# Altium schematic symbol library Main Board.SchLib: 21 symbols
Pins are listed as number, name and electrical type; pins without a type are passive.

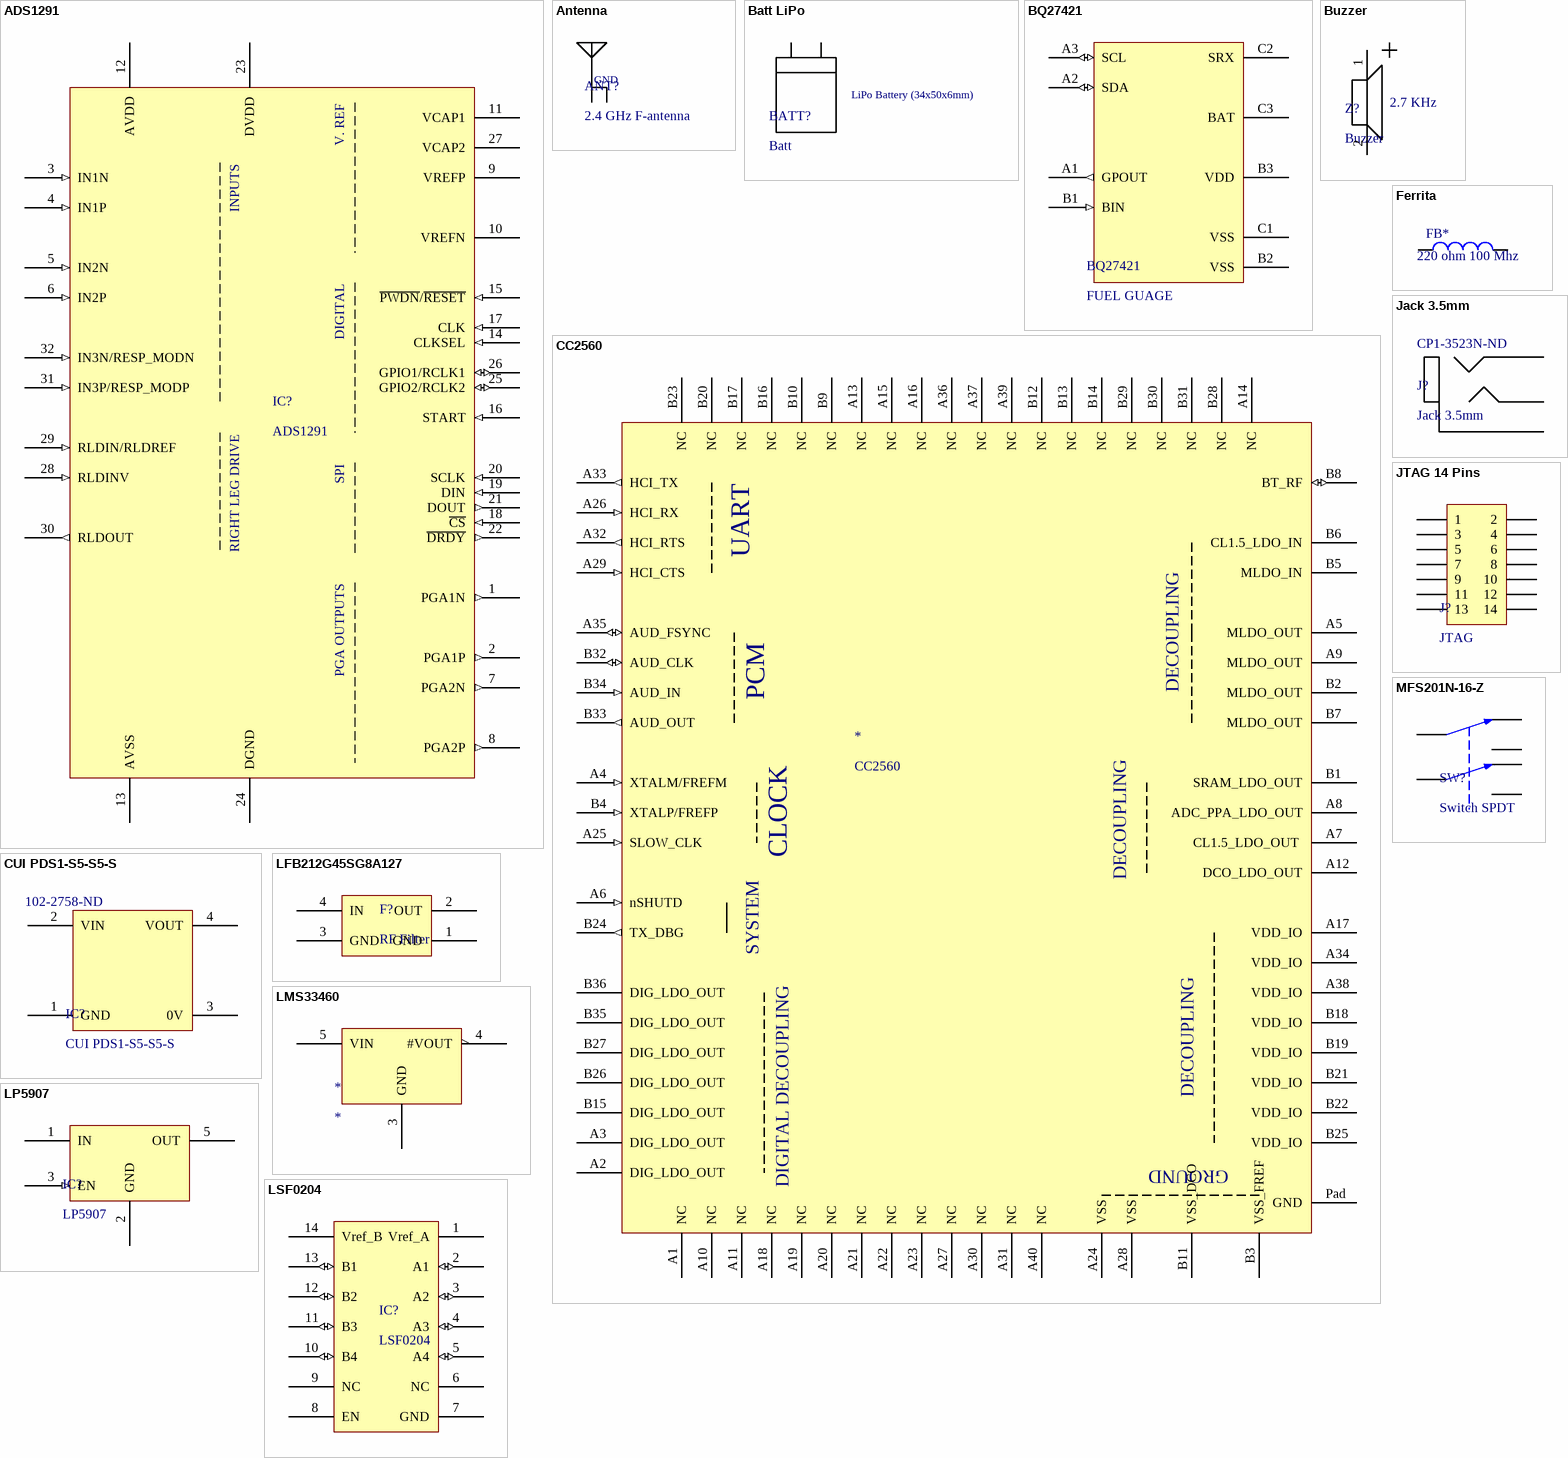
[diagram p0: symbols ADS1291 to MFS201N-16-Z]

## ADS1291
designator IC?
AFE - Medical Analog Front End; Supplier 1: Digi-Key; Supplier Part Number 1: 296-36547-5-ND
footprint TSQFP50P700X700X120-32N (TSQFP, 32-Leads, Body 5,00x5,00mm, Pitch 0,50mm, IPC Medium Density)
pins: 1 PGA1N (out), 2 PGA1P (out), 3 IN1N (in), 4 IN1P (in), 5 IN2N (in), 6 IN2P (in), 7 PGA2N (out), 8 PGA2P (out), 9 VREFP, 10 VREFN, 11 VCAP1, 12 AVDD (power), 13 AVSS (power), 14 CLKSEL (in), 15 ~{PWDN}/~{RESET} (in), 16 START (in), 17 CLK (in), 18 ~{CS} (in), 19 DIN (in), 20 SCLK (in), 21 DOUT (out), 22 ~{DRDY} (out), 23 DVDD (power), 24 DGND (power), 25 GPIO2/RCLK2 (io), 26 GPIO1/RCLK1 (io), 27 VCAP2, 28 RLDINV (in), 29 RLDIN/RLDREF (in), 30 RLDOUT (out), 31 IN3P/RESP_MODP (in), 32 IN3N/RESP_MODN (in)
text: V. REF; INPUTS; DIGITAL; RIGHT LEG DRIVE; SPI; PGA OUTPUTS

## Antenna
designator ANT?, comment 2.4 GHz F-antenna  (net tie, no BOM)
footprint Antenna
pins: 1 IN, 2 GND

## Batt LiPo
designator BATT?, comment Batt  (mechanical)
Batt - LiPo Battery 3.7V 1050mAh
footprint BATT
text: LiPo Battery (34x50x6mm)

## BQ27421
designator BQ27421, comment FUEL GUAGE
Supplier 1: Digi-Key; Supplier Part Number 1: 296-38880-1-ND
footprint BQ27421 (BGA, 9-Leads, Body 1,62x1,58mmx0,63mm, Pitch 0,50mm)
pins: A1 GPOUT (out), A2 SDA (io), A3 SCL (io), B1 BIN (in), B2 VSS (power), B3 VDD (power), C1 VSS (power), C2 SRX (power), C3 BAT (power)

## Buzzer
designator Z?
Magnetic Buzzer 2.7 KHz; Supplier 1: Farnell; Supplier Part Number 1: 2215090
footprint KSSG74B16 (Magnetic Buzzer)
pins: 1 +, 2 -
text: 2.7 KHz

## CC2560
designator *
footprint CC2560 (Double Row QFN, 76-Leads, Body 8,00x8,00mm, Pitch 0,60mm, Thermal Pad 3,40x3,40mm, IPC Low Density)
pins: A1 NC, A2 DIG_LDO_OUT (power), A3 DIG_LDO_OUT (power), A4 XTALM/FREFM (in), A5 MLDO_OUT (power), A6 nSHUTD (in), A7 CL1.5_LDO_OUT  (power), A8 ADC_PPA_LDO_OUT (power), A9 MLDO_OUT (power), A10 NC, A11 NC, A12 DCO_LDO_OUT (power), A13 NC, A14 NC, A15 NC, A16 NC, A17 VDD_IO (power), A18 NC, A19 NC, A20 NC, A21 NC, A22 NC, A23 NC, A24 VSS (power), A25 SLOW_CLK (in), A26 HCI_RX (in), A27 NC, A28 VSS (power), A29 HCI_CTS (in), A30 NC, A31 NC, A32 HCI_RTS (out), A33 HCI_TX (out), A34 VDD_IO (power), A35 AUD_FSYNC (io), A36 NC, A37 NC, A38 VDD_IO (power), A39 NC, A40 NC, B1 SRAM_LDO_OUT (power), B2 MLDO_OUT (power), B3 VSS_FREF (power), B4 XTALP/FREFP (in), B5 MLDO_IN (power), B6 CL1.5_LDO_IN (power), B7 MLDO_OUT (power), B8 BT_RF (io), B9 NC, B10 NC, B11 VSS_DCO (power), B12 NC, B13 NC, B14 NC, B15 DIG_LDO_OUT (power), B16 NC, B17 NC, B18 VDD_IO (power), B19 VDD_IO (power), B20 NC, B21 VDD_IO (power), B22 VDD_IO (power), B23 NC, B24 TX_DBG (out), B25 VDD_IO (power), B26 DIG_LDO_OUT (power), B27 DIG_LDO_OUT (power), B28 NC, B29 NC, B30 NC, B31 NC, B32 AUD_CLK (io), B33 AUD_OUT (out), B34 AUD_IN (in), B35 DIG_LDO_OUT (power), B36 DIG_LDO_OUT (power), Pad GND (power)
text: UART; DECOUPLING; PCM; CLOCK; SYSTEM; GROUND; DIGITAL DECOUPLING

## CUI PDS1-S5-S5-S
designator IC?  Supplier Part Number 1: 102-2758-ND
Supplier 1: Digi-Key
footprint SIL4
pins: 1 GND (power), 2 VIN (power), 3 0V (power), 4 VOUT (power)

## Ferrita
designator FB*, comment 220 ohm 100 Mhz
INDUCTOR, 0.04OHM, 3A, 0805; Value: 220 ohm 100 Mhz
footprint 0805 Ind (Chip Capacitor, 2-Leads, Body 2,00x1,25mm, IPC Medium Density)
pins: 1, 2

## Jack 3.5mm
designator J?  Supplier Part Number 1: CP1-3523N-ND
Supplier 1: Digi-Key
footprint Jack 3.5mm
pins: 1 Sleeve, 2 Tip, 3 Ring

## JTAG 14 Pins
designator J?, comment JTAG
JTAG 7X2 Pin Header 90º; Supplier 1: Digi-Key; Supplier Part Number 1: ED10534-ND
footprint JTAG 14 PINS (7X2 PIN Header 90º JTAG)
pins: 1, 2, 3, 4, 5, 6, 7, 8, 9, 10, 11, 12, 13, 14

## LFB212G45SG8A127
designator F?, comment RF Filter
RF Filter 2.4 GHz; Supplier 1: Digi-Key; Supplier Part Number 1: 490-5021-1-ND
footprint LFB212G45SG8A127 (DFN, 4-Leads, Body 2,00x1,25mm, Pitch 1,50mm, IPC Medium Density)
pins: 1 GND (power), 2 OUT, 3 GND (power), 4 IN (power)

## LMS33460
designator *
Supplier 1: Digi-Key; Supplier Part Number 1: LMS33460MG/NOPBCT-ND
footprint LMS33460 (SOT23, 5-Leads, Body 2,00x2,10mm, Pitch 0,65mm, IPC Medium Density)
pins: 3 GND (power), 4 #VOUT (oc), 5 VIN (power)

## LP5907
designator IC?
Supplier 1: Digi-Key; Supplier Part Number 1: 296-38557-1-ND
footprint SOT23 (SOT23, 5-Leads, Body 2,90x2,80mm, Pitch 0,95mm, IPC Medium Density)
pins: 1 IN (power), 2 GND (power), 3 EN (in), 5 OUT (power)

## LSF0204
designator IC?
footprint LSF0204 (TSOP, 14-Leads, Body 5,00x4,40mm, Pitch 0,65mm, IPC Medium Density)
pins: 1 Vref_A (power), 2 A1 (io), 3 A2 (io), 4 A3 (io), 5 A4 (io), 6 NC, 7 GND (power), 8 EN, 9 NC, 10 B4 (io), 11 B3 (io), 12 B2 (io), 13 B1 (io), 14 Vref_B

## MFS201N-16-Z
designator SW?, comment Switch SPDT
Supplier 1: Digi-Key; Supplier Part Number 1: 563-1558-ND
footprint MFS201N-16-Z (DPDT Switch 30V 1A)
pins: 1, 2, 3, 4, 5, 6

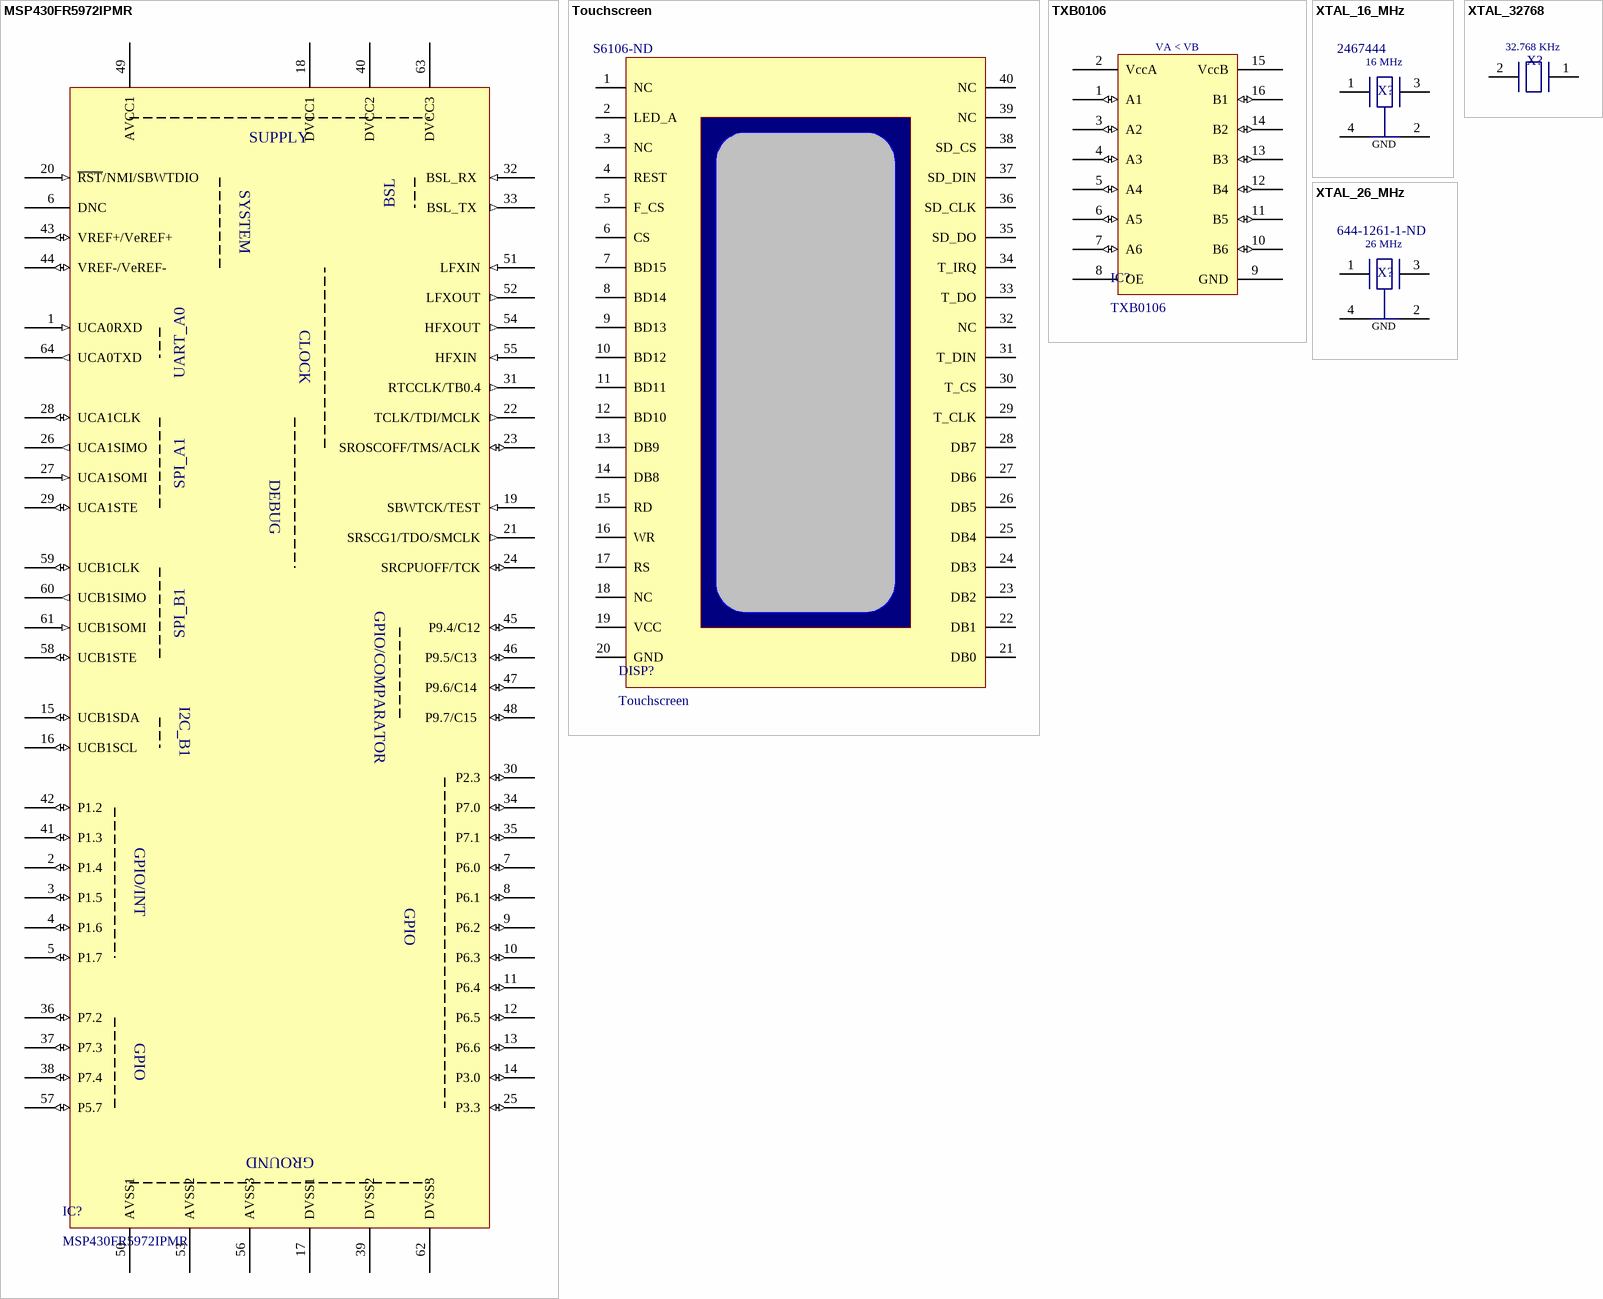
[diagram p1: symbols MSP430FR5972IPMR to XTAL_32768]

## MSP430FR5972IPMR
designator IC?
footprint MSP430FR5972 (TSQFP, 64-Leads, Body 10,00x10,00mm, Pitch 0,50mm, IPC Medium Density)
pins: 1 UCA0RXD (in), 2 P1.4 (io), 3 P1.5 (io), 4 P1.6 (io), 5 P1.7 (io), 6 DNC (hiz), 7 P6.0 (io), 8 P6.1 (io), 9 P6.2 (io), 10 P6.3 (io), 11 P6.4 (io), 12 P6.5 (io), 13 P6.6 (io), 14 P3.0 (io), 15 UCB1SDA (io), 16 UCB1SCL (io), 17 DVSS1 (power), 18 DVCC1 (power), 19 SBWTCK/TEST (in), 20 ~{RST}/NMI/SBWTDIO (in), 21 SRSCG1/TDO/SMCLK (out), 22 TCLK/TDI/MCLK (out), 23 SROSCOFF/TMS/ACLK (io), 24 SRCPUOFF/TCK (io), 25 P3.3 (io), 26 UCA1SIMO (out), 27 UCA1SOMI (in), 28 UCA1CLK (io), 29 UCA1STE (io), 30 P2.3 (io), 31 RTCCLK/TB0.4 (out), 32 BSL_RX  (in), 33 BSL_TX  (out), 34 P7.0 (io), 35 P7.1 (io), 36 P7.2 (io), 37 P7.3 (io), 38 P7.4 (io), 39 DVSS2 (power), 40 DVCC2 (power), 41 P1.3 (io), 42 P1.2 (io), 43 VREF+/VeREF+ (io), 44 VREF-/VeREF- (io), 45 P9.4/C12 (io), 46 P9.5/C13  (io), 47  P9.6/C14  (io), 48 P9.7/C15  (io), 49 AVCC1 (power), 50 AVSS1, 51 LFXIN (in), 52 LFXOUT (out), 53 AVSS2, 54 HFXOUT (out), 55 HFXIN  (in), 56 AVSS3, 57 P5.7 (io), 58 UCB1STE (io), 59 UCB1CLK (io), 60 UCB1SIMO (out), 61 UCB1SOMI (in), 62 DVSS3 (power), 63 DVCC3 (power), 64 UCA0TXD (out)
text: SUPPLY; BSL; SYSTEM; UART_A0; CLOCK; SPI_A1; DEBUG; SPI_B1; GPIO/COMPARATOR; I2C_B1; GPIO/INT; GPIO; GROUND

## Touchscreen
designator DISP?  Supplier Part Number 1: S6106-ND
Supplier 1: Digi-Key
footprint TSCREEN_CONN
footprint TSCREEN_PINS
pins: 1 NC, 2 LED_A, 3 NC, 4 REST, 5 F_CS, 6 CS, 7 BD15, 8 BD14, 9 BD13, 10 BD12, 11 BD11, 12 BD10, 13 DB9, 14 DB8, 15 RD, 16 WR, 17 RS, 18 NC, 19 VCC, 20 GND, 21 DB0, 22 DB1, 23 DB2, 24 DB3, 25 DB4, 26 DB5, 27 DB6, 28 DB7, 29 T_CLK, 30 T_CS, 31 T_DIN, 32 NC, 33 T_DO, 34 T_IRQ, 35 SD_DO, 36 SD_CLK, 37 SD_DIN, 38 SD_CS, 39 NC, 40 NC

## TXB0106
designator IC?
footprint TXB0106 (TSOP, 16-Leads, Body 5,00x4,40mm, Pitch 0,65mm, IPC Medium Density)
pins: 1 A1 (io), 2 VccA (power), 3 A2 (io), 4 A3 (io), 5 A4 (io), 6 A5 (io), 7 A6 (io), 8 OE, 9 GND (power), 10 B6 (io), 11 B5 (io), 12 B4 (io), 13 B3 (io), 14 B2 (io), 15 VccB, 16 B1 (io)
text: VA < VB

## XTAL_16_MHz
designator X?, comment Supplier Part Number 1: 2467444  (hidden comment: XTAL_16MHZ)
Crystal - 16 MHz; Supplier 1: Farnell
footprint XTAL_16_MHz (DFN, 4-Leads, Body 3,10x2,50mm, Pitch 1,50mm, IPC Medium Density)
pins: 1 OUT, 2 GND, 3 IN, 4 GND
text: 16 MHz

## XTAL_26_MHz
designator X?  Supplier Part Number 1: 644-1261-1-ND  (hidden comment: XTAL_26_MHz)
Crystal - 26 MHz; Supplier 1: Digi-Key
footprint XTAL_26MHZ (DFN, 4-Leads, Body 2,50x3,20mm, Pitch 2,20mm, IPC Medium Density)
pins: 1 OUT, 2 GND, 3 IN, 4 GND
text: 26 MHz

## XTAL_32768
designator X?  (value not drawn)
Crystal - 32.768 KHz; Supplier 1: Digi-Key; Supplier Part Number 1: 535-9032-ND
footprint xtal_32768
pins: 1 IN, 2 OUT
text: 32.768 KHz